# EAGLE library part 2X10 (library LARS_409_CONNECTORS)
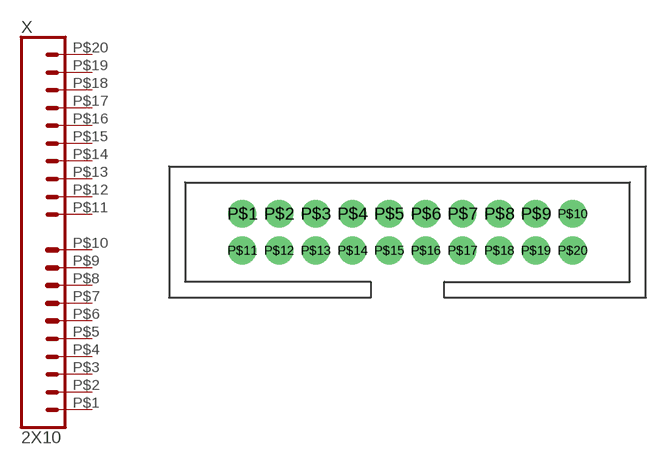
[diagram p9: symbol with the pads of IDC-20MS(BH-20); footprint IDC-20MS(BH-20)]

Designator prefix X

## 2X10  [IDC-20MS(BH-20)]
P$1  1  pas
P$2  2  pas
P$3  3  pas
P$4  4  pas
P$5  5  pas
P$6  6  pas
P$7  7  pas
P$8  8  pas
P$9  9  pas
P$10  10  pas
P$11  11  pas
P$12  12  pas
P$13  13  pas
P$14  14  pas
P$15  15  pas
P$16  16  pas
P$17  17  pas
P$18  18  pas
P$19  19  pas
P$20  20  pas

## Footprint IDC-20MS(BH-20) (pad centres in mm)
drill 1.1 pad 1.93: P$1 -11.43,1.27; P$2 -8.89,1.27; P$3 -6.35,1.27; P$4 -3.81,1.27; P$5 -1.27,1.27; P$6 1.27,1.27; P$7 3.81,1.27; P$8 6.35,1.27; P$9 8.89,1.27; P$10 11.43,1.27; P$11 -11.43,-1.27; P$12 -8.89,-1.27; P$13 -6.35,-1.27; P$14 -3.81,-1.27; P$15 -1.27,-1.27; P$16 1.27,-1.27; P$17 3.81,-1.27; P$18 6.35,-1.27; P$19 8.89,-1.27; P$20 11.43,-1.27